# EAGLE library part F2915* (library Renesas)
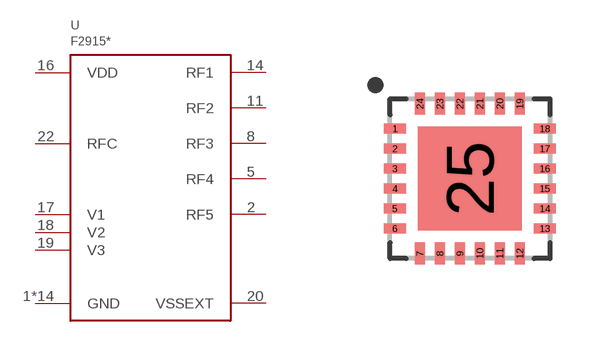
[diagram p2: symbol with the pads of QFN24; footprint QFN24]

Designator prefix U

## F2915NBGK  [QFN24]
1  GND
2  RF5
3  GND
4  GND
5  RF4
6  GND
7  GND
8  RF3
9  GND
10  GND
11  RF2
12  GND
13  GND
14  RF1
15  GND
16  VDD
17  V1
18  V2
19  V3
20  VSSEXT
21  GND
22  RFC
23  GND
24  GND
25  GND

## Footprint QFN24 (pad centres in mm)
smd 0.55 x 0.25: 1 -1.875,1.25; 2 -1.875,0.75; 3 -1.875,0.25; 4 -1.875,-0.25; 5 -1.875,-0.75; 6 -1.875,-1.25; 13 1.875,-1.25; 14 1.875,-0.75; 15 1.875,-0.25; 16 1.875,0.25; 17 1.875,0.75; 18 1.875,1.25
smd 0.25 x 0.55: 7 -1.25,-1.875; 8 -0.75,-1.875; 9 -0.25,-1.875; 10 0.25,-1.875; 11 0.75,-1.875; 12 1.25,-1.875; 19 1.25,1.875; 20 0.75,1.875; 21 0.25,1.875; 22 -0.25,1.875; 23 -0.75,1.875; 24 -1.25,1.875
smd 2.6 x 2.6: 25 0,0